# Altium footprint library 5015.PcbLib: 1 footprints
Each footprint in its own frame and in the unit in brackets; x right, y up, seen from the top. Pads: shape width x height; smd on the part's side, far side on the other; paste and mask are expansions set on the pad; w line width, h text height; cw(c..) or ccw(c..) is an arc to the next point about the centre after c.
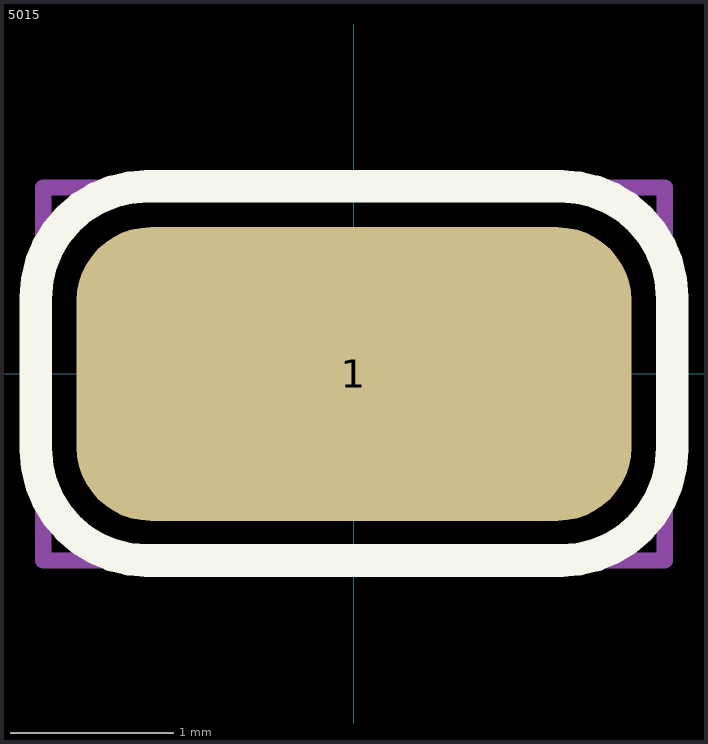
[diagram p0: the footprint, top view; thin cyan lines are the x and y axes]

## 5015 [mm] "SMD Testpoint"
pads (1):
  rrect50% 3.4x1.8 smd: 1(0,0)
Top Overlay:
  lines w0.2: 1.243,-1.143 -1.27,-1.143 cw(c-1.27,-0.463) -1.95,-0.463 -1.95,0.47 cw(c-1.27,0.47) -1.27,1.15 1.27,1.15 cw(c1.27,0.47) 1.95,0.47 1.95,-0.25 1.95,-0.463 cw(c1.27,-0.463) 1.27,-1.143
Top Assembly:
  lines w0.1: -1.397,-0.508 -1.397,0.508 1.27,0.508 1.27,-0.508 -1.397,-0.508
Top Courtyard:
  lines w0.1: -1.905,-1.143 -1.905,1.143 1.905,1.143 1.905,-1.143 -1.905,-1.143
3D body "5015--3DModel-STEP-86487.STEP": height 1.52, standoff 0, extent -1.333,-0.508 1.334,0.508